# EAGLE library part BTMZ25012A0 (library mine)
BTMZ5012A0 Bluetooth module by Samsung
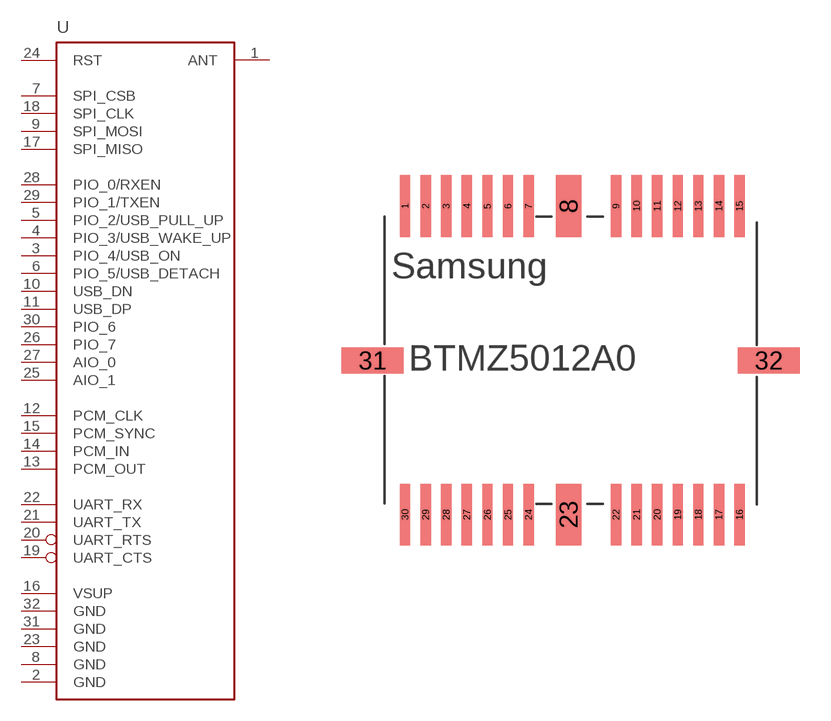
[diagram p0: symbol with the pads of BTMZ5012A0-XXX-S2; footprint BTMZ5012A0-XXX-S2]

Designator prefix -

## BTMZ25012A0  [BTMZ5012A0-XXX-S2]
1  ANT
2  GND  pwr
3  PIO_4/USB_ON
4  PIO_3/USB_WAKE_UP
5  PIO_2/USB_PULL_UP
6  PIO_5/USB_DETACH
7  SPI_CSB  in
8  GND  pwr
9  SPI_MOSI  in
10  USB_DN
11  USB_DP
12  PCM_CLK
13  PCM_OUT  out
14  PCM_IN  in
15  PCM_SYNC
16  VSUP
17  SPI_MISO  out
18  SPI_CLK  in
19  UART_CTS  in
20  UART_RTS  out
21  UART_TX  out
22  UART_RX  in
23  GND  pwr
24  RST
25  AIO_1
26  PIO_7
27  AIO_0
28  PIO_0/RXEN
29  PIO_1/TXEN
30  PIO_6
31  GND  pwr
32  GND  pwr

## Footprint BTMZ5012A0-XXX-S2 (pad centres in mm)
BTMZ5012A0 SMD Package for the BT module
smd 0.5 x 3: 1 1.08,14.5; 2 2.08,14.5; 3 3.08,14.5; 4 4.08,14.5; 5 5.08,14.5; 6 6.08,14.5; 7 7.08,14.5; 9 11.33,14.5; 10 12.33,14.5; 11 13.33,14.5; 12 14.33,14.5; 13 15.33,14.5; 14 16.33,14.5; 15 17.33,14.5; 16 17.33,-0.49; 17 16.33,-0.49; 18 15.33,-0.49; 19 14.33,-0.49; 20 13.33,-0.49; 21 12.33,-0.49; 22 11.33,-0.49; 24 7.08,-0.49; 25 6.08,-0.49; 26 5.08,-0.49; 27 4.08,-0.49; 28 3.08,-0.49; 29 2.08,-0.49; 30 1.08,-0.49
smd 1.25 x 3: 8 9.025,14.5; 23 9.025,-0.49
smd 3 x 1.25: 31 -0.5,7; 32 18.75,7